# Altium integrated library OSRAM Optoelectronic LED.IntLib: 1 symbol
Pins are listed as number, name and electrical type; pins without a type are passive.

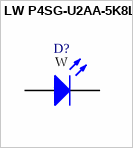
[diagram p0: symbol LW P4SG-U2AA-5K8L]

## LW P4SG-U2AA-5K8L
designator D?
Hyper PointLED long life, white, colored diffused, enhanced optical power LED (ThinGaN), SMT Top Emitter, Round Miniature Package, Reverse Mount; PCB_Layout: Complies with manufacturer's recommendation.; Published: 14-Mar-2008; DatasheetVersion: Mar-2007; PackageVersion: Mar-2007; PackageReference: LWP4SG; Publisher: Altium Limited; PackageDescription: White LED; 2 Reverse Gullwing Leads, Body 1.9 x 0.875mm (Dia.xH); ComponentLink1Description: Manufacturer Link; ComponentLink1URL: http://www.osram-os.com/; ComponentLink2Description: Datasheet; ComponentLink2URL: http://catalog.osram-os.com/catalogue/catalogue.do;jsessionid=AD571800CED0208623E7FAFDF556DB1C?act=downloadFile&favOid=020000030001e106000200b6
footprint LWP4SG (LED; 2 Leads, Body 1.9x0.875mm (Dia.xH), Reverse Mount)
pins: 1 A, 2 K
text: W